# EAGLE library part WRL-13678 (library custom)
.1" header, two rows of four.
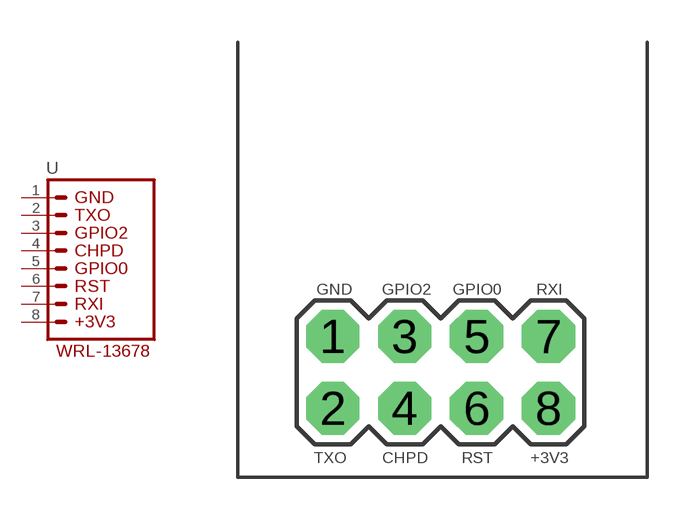
[diagram p1: symbol with the pads of WRL-13678; footprint WRL-13678]

Designator prefix -

## WRL-13678  [WRL-13678]
1  1  pas
2  2  pas
3  3  pas
4  4  pas
5  5  pas
6  6  pas
7  7  pas
8  8  pas

## Footprint WRL-13678 (pad centres in mm)
drill 1.016 pad 1.88 octagon: 1 3.35,4.97; 2 3.35,2.43; 3 5.89,4.97; 4 5.89,2.43; 5 8.43,4.97; 6 8.43,2.43; 7 10.97,4.97; 8 10.97,2.43